# Altium schematic symbol library usb_a_3.0_x2.Schlib: 1 symbol
Pins are listed as number, name and electrical type; pins without a type are passive.

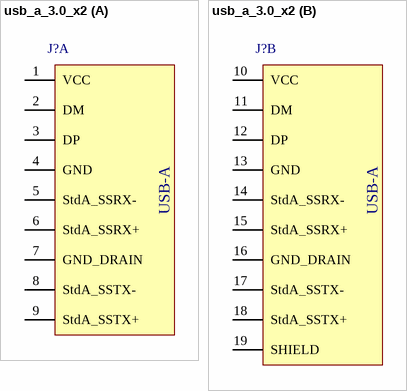
[diagram p0: symbol usb_a_3.0_x2]

## usb_a_3.0_x2
designator J?
USB 3.0 type A jack, Double Decker
part A pins: 1 VCC, 2 DM, 3 DP, 4 GND, 5 StdA_SSRX-, 6 StdA_SSRX+, 7 GND_DRAIN, 8 StdA_SSTX-, 9 StdA_SSTX+
part B pins: 10 VCC, 11 DM, 12 DP, 13 GND, 14 StdA_SSRX-, 15 StdA_SSRX+, 16 GND_DRAIN, 17 StdA_SSTX-, 18 StdA_SSTX+, 19 SHIELD
part A text: USB-A
part B text: USB-A